# Altium footprint library IR_Communication_Schematic_Lib.PcbLib: 16 footprints
Each footprint in its own frame and in the unit in brackets; x right, y up, seen from the top. Pads: shape width x height; smd on the part's side, far side on the other; paste and mask are expansions set on the pad; w line width, h text height; cw(c..) or ccw(c..) is an arc to the next point about the centre after c.
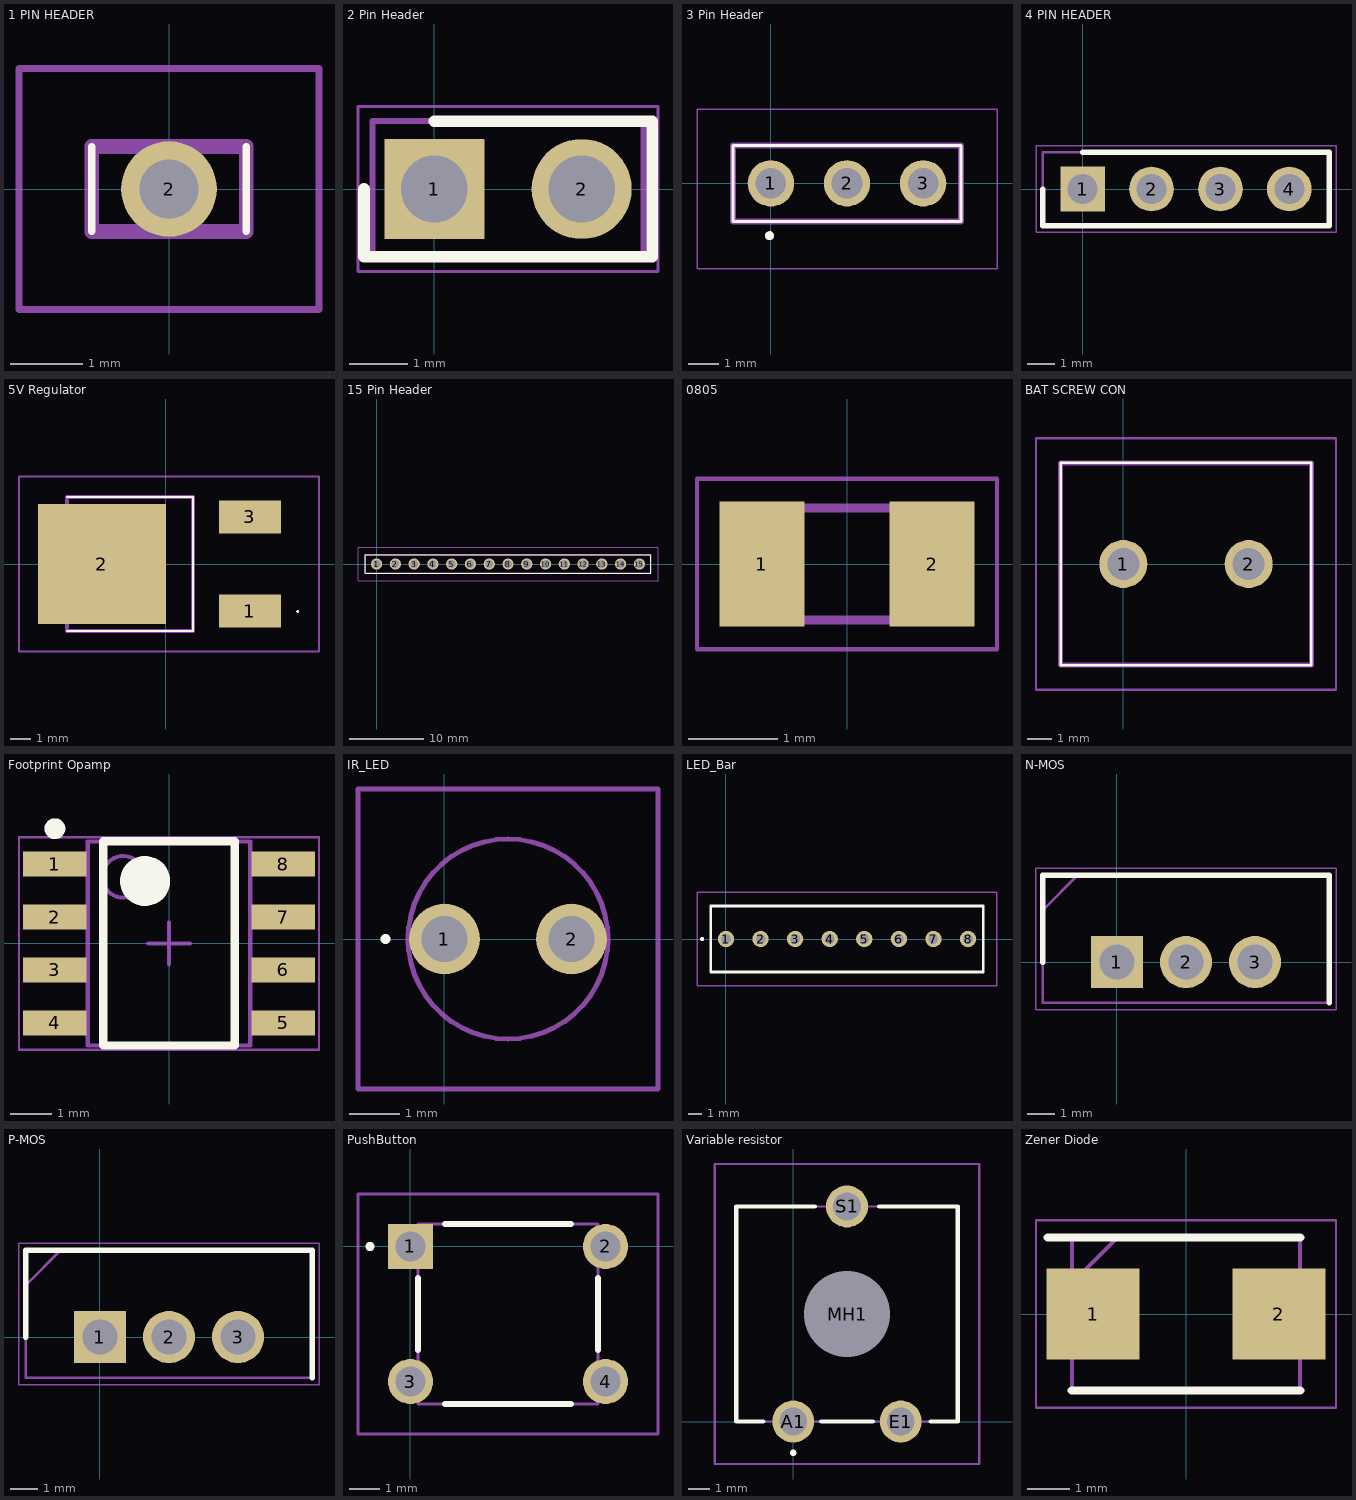
[diagram p0: the footprints below, top view; thin cyan lines are the x and y axes]

## 1 PIN HEADER [mm]
pads (1):
  round 1.316 hole 0.81: 2(0,0)
Top Overlay:
  lines w0.1: -1.065,-0.585 -1.065,0.585 ; 1.065,-0.585 1.065,0.585
Mechanical 13:
  lines w0.2: -1.065,-0.585 1.065,-0.585 1.065,0.585 -1.065,0.585 -1.065,-0.585
Mechanical 15:
  lines w0.1: -2.065,-1.658 2.065,-1.658 2.065,1.658 -2.065,1.658 -2.065,-1.658
3D body "5-146281-1.stp": height 8.2, standoff -2.97, extent -1.067,-1.168 1.067,1.168

## 2 Pin Header [mm]
pads (2):
  rect 1.725x1.725 hole 1.15: 1(0,0)
  round 1.725 hole 1.15: 2(2.54,0)
Top Overlay:
  lines w0.2: -1.212,0 -1.212,-1.17 3.753,-1.17 3.753,1.17 0,1.17
Mechanical 13:
  lines w0.1: -1.065,-1.17 3.605,-1.17 3.605,1.17 -1.065,1.17 -1.065,-1.17
Mechanical 15:
  lines w0.05: -1.315,-1.42 3.855,-1.42 3.855,1.42 -1.315,1.42 -1.315,-1.42
3D body "5-146284-2.stp": height 8.21, standoff -2.67, extent -1.065,-1.17 3.605,1.17

## 3 Pin Header [mm] "TSW-103-XX-YY-S"
pads (3):
  round 1.55 hole 1.02: 1(0,0) 2(2.54,0) 3(5.08,0)
Top Overlay:
  circle w0.2: c-0.05,-1.75 r0.05
  lines w0.1: -1.27,-1.27 6.35,-1.27 6.35,1.27 -1.27,1.27 -1.27,-1.27
Mechanical 13:
  lines w0.2: -1.27,-1.27 6.35,-1.27 6.35,1.27 -1.27,1.27 -1.27,-1.27
Mechanical 15:
  lines w0.05: -2.47,-2.85 7.55,-2.85 7.55,2.47 -2.47,2.47 -2.47,-2.85
3D body: height 0.25, standoff 0, extent -2.54,-2.921 7.62,2.54

## 4 PIN HEADER [mm] "HDRV4W64P0X254_1X4_1016X250X863P"
pads (4):
  rect 1.65x1.65 hole 1.1: 1(0,0)
  round 1.65 hole 1.1: 2(2.54,0) 3(5.08,0) 4(7.62,0)
Top Overlay:
  lines w0.2: -1.47,0 -1.47,-1.35 9.09,-1.35 9.09,1.35 0,1.35
Mechanical 13:
  lines w0.1: -1.47,-1.35 -1.47,1.35 9.09,1.35 9.09,-1.35 -1.47,-1.35
Mechanical 15:
  lines w0.05: -1.72,-1.6 -1.72,1.6 9.34,1.6 9.34,-1.6 -1.72,-1.6
3D body: height 0.25, standoff 0, extent -1.778,-1.651 9.271,1.651

## 5V Regulator [mm] "MC7805BDTG"
pads (3):
  rect 3x1.6 smd: 1(4.08,-2.285) 3(4.08,2.285)
  rect 6.2x5.8 smd: 2(-3.1,0)
Top Overlay:
  lines w0.068: 6.358,-2.308 cw(c6.392,-2.308) 6.426,-2.308 cw(c6.392,-2.308) 6.358,-2.308
  lines w0.1: -4.79,-3.25 1.31,-3.25 1.31,3.25 -4.79,3.25
Mechanical 13:
  lines w0.2: -4.79,-3.25 -4.79,3.25 1.31,3.25 1.31,-3.25 -4.79,-3.25
Mechanical 15:
  lines w0.1: -7.12,-4.25 -7.12,4.25 7.426,4.25 7.426,-4.25 -7.12,-4.25
3D body "MC7805BDTG.stp": height 2.18, standoff 0, extent -5.185,-3.17 4.215,3.18

## 15 Pin Header [mm]
pads (15):
  round 1.53 hole 1.02: 1(0,0) 2(2.54,0) 3(5.08,0) 4(7.62,0) 5(10.16,0) 6(12.7,0) 7(15.24,0) 8(17.78,0) 9(20.32,0) 10(22.86,0) 11(25.4,0) 12(27.94,0) 13(30.48,0) 14(33.02,0) 15(35.56,0)
Top Overlay:
  lines w0.1: -1.52,-1.25 -1.52,1.25 37.08,1.25 37.08,-1.25 -1.52,-1.25
Mechanical 13:
  lines w0.2: -1.52,-1.25 -1.52,1.25 37.08,1.25 37.08,-1.25 -1.52,-1.25
Mechanical 15:
  lines w0.1: -2.52,-2.25 -2.52,2.25 38.08,2.25 38.08,-2.25 -2.52,-2.25
3D body "PRT-16279.stp": height 9.61, standoff -9.39, extent 6.1,-1.25 29.46,1.25

## 0805 [mm]
pads (2):
  rect 0.95x1.4 smd: 1(-0.95,0) 2(0.95,0)
Mechanical 13:
  lines w0.1: -1,-0.625 -1,0.625 1,0.625 1,-0.625 -1,-0.625
Mechanical 15:
  lines w0.05: -1.675,-0.95 -1.675,0.95 1.675,0.95 1.675,-0.95 -1.675,-0.95
3D body "RP0805BRD071KL.stp": height 0.6, standoff 0, extent -1,-0.625 1,0.625

## BAT SCREW CON [mm]
pads (2):
  round 1.95 hole 1.3: 1(0,0) 2(5.08,0)
Top Overlay:
  lines w0.1: -2.54,-4.1 -2.54,4.1 7.62,4.1 7.62,-4.1 -2.54,-4.1
Mechanical 13:
  lines w0.2: -2.54,-4.1 -2.54,4.1 7.62,4.1 7.62,-4.1 -2.54,-4.1
Mechanical 15:
  lines w0.1: -3.54,-5.1 -3.54,5.1 8.62,5.1 8.62,-5.1 -3.54,-5.1
3D body "TB006-508-02BE.stp": height 10.5, standoff -5, extent -2.54,-4.1 7.62,4.1

## Footprint Opamp [mm] "ONSC-SOIC-8-751-07_V"
height 1.75
pads (8):
  rect 1.52x0.6 smd: 1(-2.74,1.905) 2(-2.74,0.635) 3(-2.74,-0.635) 4(-2.74,-1.905) 5(2.74,-1.905) 6(2.74,-0.635) 7(2.74,0.635) 8(2.74,1.905)
Top Overlay:
  circle w0.25: c-2.74,2.755 r0.125
  circle w0.6: c-0.575,1.5 r0.3
  lines w0.2: -1.58,-2.45 -1.58,2.45 1.58,2.45 1.58,-2.45 -1.58,-2.45
Mechanical 13:
  circle w0.1: c-1.1,1.6 r0.5
  lines w0.1: -1.95,-2.45 -1.95,2.45 1.95,2.45 1.95,-2.45 -1.95,-2.45
Mechanical 15:
  lines w0.05: -3.6,-2.55 -3.6,2.55 3.6,2.55 3.6,-2.55 -3.6,-2.55
  lines w0.1: -0.5,0 0.5,0 ; 0,-0.5 0,0.5
3D body: height 1.75, standoff 0.1, extent -1.95,-2.45 1.95,2.45

## IR_LED [mm] "ELIR204H16L10"
pads (2):
  round 1.416 hole 0.91: 1(0,0) 2(2.54,0)
Top Overlay:
  lines w0.1: -1.23,0 ccw(c-1.18,0) -1.13,0 ccw(c-1.18,0) -1.23,0
Mechanical 13:
  lines w0.1: -0.73,0 cw(c1.27,0) 3.27,0 cw(c1.27,0) -0.73,0
Mechanical 15:
  lines w0.1: -1.73,-3 -1.73,3 4.27,3 4.27,-3 -1.73,-3
3D body "EL-IR204_H16_L10.stp": height 7.1, standoff -5, extent -0.73,-1.989 3.27,1.989

## LED_Bar [mm] "SSBLX2550SGW"
pads (8):
  round 1.2 hole 0.7: 1(0,0) 2(2.54,0) 3(5.08,0) 4(7.62,0) 5(10.16,0) 6(12.7,0) 7(15.24,0) 8(17.78,0)
Top Overlay:
  lines w0.2: -1.8,0 ccw(c-1.75,0) -1.7,0 ; -1.8,0 cw(c-1.75,0) -1.7,0 ; -1.8,0 ccw(c-1.75,0) -1.7,0 ; -1.13,-2.43 18.91,-2.43 18.91,2.43 -1.13,2.43 -1.13,-2.43
Mechanical 13:
  lines w0.1: -1.13,-2.43 18.91,-2.43 18.91,2.43 -1.13,2.43 -1.13,-2.43
Mechanical 15:
  lines w0.1: -2.13,-3.43 19.91,-3.43 19.91,3.43 -2.13,3.43 -2.13,-3.43
3D body "SSB-LX2550SGW.stp": height 7.47, standoff -5, extent -1.13,-2.43 18.91,2.43

## N-MOS [mm] "TO254P469X1042X1967-3P"
pads (3):
  rect 1.92x1.92 hole 1.28: 1(0,0)
  round 1.92 hole 1.28: 2(2.54,0) 3(5.08,0)
Top Overlay:
  lines w0.2: -2.73,0 -2.73,3.195 7.81,3.195 7.81,-1.495
Mechanical 13:
  lines w0.1: -2.73,1.925 -1.46,3.195 ; -2.73,-1.495 -2.73,3.195 7.81,3.195 7.81,-1.495 -2.73,-1.495
Mechanical 15:
  lines w0.05: -2.98,-1.745 -2.98,3.445 8.06,3.445 8.06,-1.745 -2.98,-1.745
3D body "IRF540NPBF.stp": height 18.84, standoff -17.51, extent -2.668,-1.495 7.748,3.195

## P-MOS [mm] "TO254P469X1042X1967-3P"
pads (3):
  rect 1.92x1.92 hole 1.28: 1(0,0)
  round 1.92 hole 1.28: 2(2.54,0) 3(5.08,0)
Top Overlay:
  lines w0.2: -2.73,0 -2.73,3.195 7.81,3.195 7.81,-1.495
Mechanical 13:
  lines w0.1: -2.73,1.925 -1.46,3.195 ; -2.73,-1.495 7.81,-1.495 7.81,3.195 -2.73,3.195 -2.73,-1.495
Mechanical 15:
  lines w0.05: -2.98,-1.745 8.06,-1.745 8.06,3.445 -2.98,3.445 -2.98,-1.745
3D body "IRF540NPBF.stp": height 18.84, standoff -17.51, extent -2.668,-1.495 7.748,3.195

## PushButton [mm] "TS026650BK100SCRD"
pads (4):
  rect 1.5x1.5 hole 1: 1(0,0)
  round 1.5 hole 1: 2(6.5,0) 3(0,-4.5) 4(6.5,-4.5)
Top Overlay:
  lines w0.2: 0.25,-3.45 0.25,-1.05 ; 1.15,-5.25 5.35,-5.25 ; 1.15,0.75 5.35,0.75 ; 6.25,-3.45 6.25,-1.05 ; -1.4,0 cw(c-1.35,0) -1.3,0 ; -1.4,0 ccw(c-1.35,0) -1.3,0 ; -1.4,0 cw(c-1.35,0) -1.3,0
Mechanical 13:
  lines w0.1: 0.25,-5.25 6.25,-5.25 6.25,0.75 0.25,0.75 0.25,-5.25
Mechanical 15:
  lines w0.1: -1.75,-6.25 8.25,-6.25 8.25,1.75 -1.75,1.75 -1.75,-6.25
3D body "TS02-66-50-BK-100-SCR-D.stp": height 5.3, standoff -5, extent -0.4,-5.25 6.9,0.75

## Variable resistor [mm] "PT10LV10202A2020S"
pads (4):
  round 1.95 hole 1.3: A1(0,0) E1(5,0) S1(2.5,10)
  round 2 hole 4 unplated: MH1(2.5,5)
Top Overlay:
  lines w0.2: -1.4,0 -2.65,0 -2.65,10 1,10 ; 1.3,0 3.7,0 ; 4,10 7.65,10 7.65,0 6.4,0 ; 0,-1.5 ccw(c0,-1.45) 0,-1.4 ; 0,-1.5 cw(c0,-1.45) 0,-1.4 ; 0,-1.5 ccw(c0,-1.45) 0,-1.4
Mechanical 13:
  lines w0.1: -2.65,0 7.65,0 7.65,10 -2.65,10 -2.65,0
Mechanical 15:
  lines w0.1: -3.65,-1.975 8.65,-1.975 8.65,11.975 -3.65,11.975 -3.65,-1.975
3D body "PT10LV10-202A2020-S.stp": height 6.3, standoff -5, extent -2.65,-0.546 7.65,10.546

## Zener Diode [mm] "DIOM5436X244N"
pads (2):
  rect 2.2x2.15 smd: 1(-2.2,0) 2(2.2,0)
Top Overlay:
  lines w0.2: -3.275,1.81 2.7,1.81 ; -2.7,-1.81 2.7,-1.81
Mechanical 13:
  lines w0.1: -2.7,0.735 -1.625,1.81 ; -2.7,-1.81 -2.7,1.81 2.7,1.81 2.7,-1.81 -2.7,-1.81
Mechanical 15:
  lines w0.05: -3.55,-2.22 -3.55,2.22 3.55,2.22 3.55,-2.22 -3.55,-2.22
3D body "VS-10BQ015-M3_5BT.stp": height 2.44, standoff 0, extent -2.7,-1.81 2.7,1.81